# Altium schematic symbol library BAT17-07.SchLib: 1 symbol
Pins are listed as number, name and electrical type; pins without a type are passive.

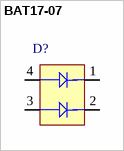
[diagram p0: symbol BAT17-07]

## BAT17-07
designator D?
Dual Silicon Schottky Diode, 130 mA IF Max, SOT143-4-1, Green; Manufacturer: Infineon; PartNumber: BAT17-07; CT (typ): 0.75 pF; Green: yes; Group: RF Mixer; IF (max): 130 mA; VF (typ): 0.34 V; VR (max): 4 V; DatasheetVersion: Jun-2011; PackageReference: SOT143-4-1; PackageDescription: 4-Pin Small Outline Transistor Package, 1.3 x 2.9 mm Body; Supplier 1: Mouser; Supplier Part Number 1: N/A; Configuration: Dual; Mounting Technology: Surface Mount; ComponentLink1Description: Manufacturer URL; ComponentLink1URL: http://www.infineon.com/; ComponentLink2Description: Datasheet; ComponentLink2URL: http://www.infineon.com/dgdl/bat17series.pdf?folderId=db3a304314dca3890114ff6812070b44&fileId=db3a304314dca389011517d785d60d4e&location=en.Products.RF.RF_Mixer___Detector_Schottky_Diodes.DATASHEET.bat17series.pdf; ComponentLink3Description: Package Specification; ComponentLink3URL: http://www.infineon.com/dgdl/SOT143-Package_Overview.pdf?folderId=db3a30431936bc4b011952ce8b1b3bed&fileId=db3a30431936bc4b011952df42203c0c
footprint INF-SOT143-4-1_V (SOT143, 4-Leads, Body 2.9x1.3 mm)
pins: 1 K1, 2 K2, 3 A2, 4 A1